# EAGLE library part FSM-21045-7 (library taki-library)
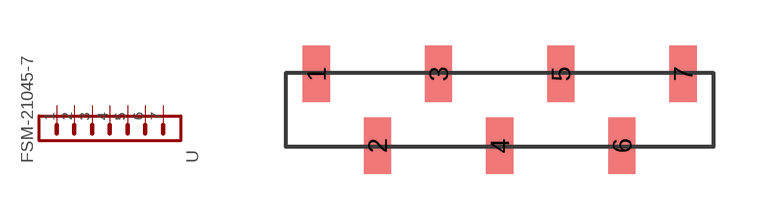
[diagram p42: symbol with the pads of FSM-21045-7; footprint FSM-21045-7]

Designator prefix -

## FSM-21045-7  [FSM-21045-7]
1  1
2  2
3  3
4  4
5  5
6  6
7  7

## Footprint FSM-21045-7 (pad centres in mm)
smd 0.89 x 1.85: 1 0,1.175; 2 2,-1.175; 3 4,1.175; 4 6,-1.175; 5 8,1.175; 6 10,-1.175; 7 12,1.175